# Altium footprint library SPDT_5X5.A1.PcbLib: 1 footprints
Each footprint in its own frame and in the unit in brackets; x right, y up, seen from the top. Pads: shape width x height; smd on the part's side, far side on the other; paste and mask are expansions set on the pad; w line width, h text height; cw(c..) or ccw(c..) is an arc to the next point about the centre after c.
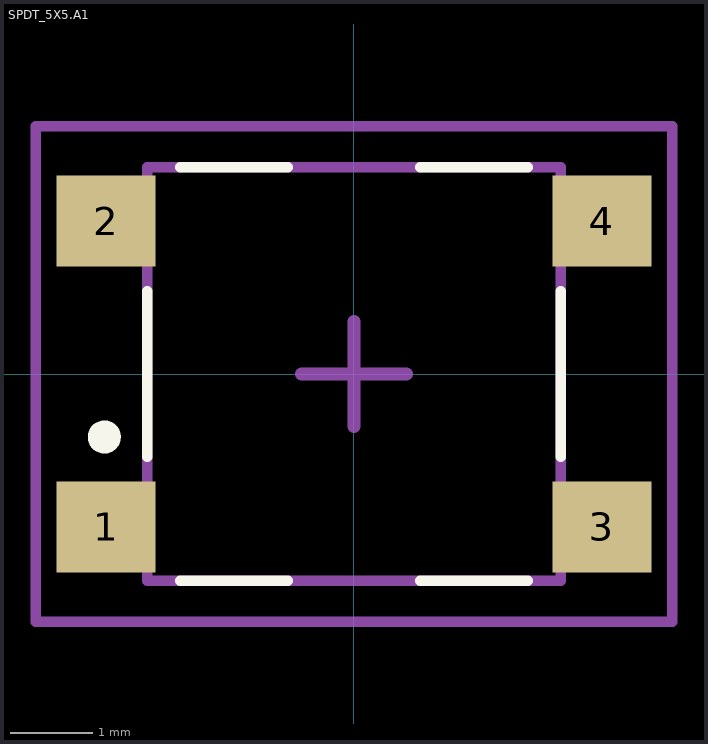
[diagram p0: the footprint, top view; thin cyan lines are the x and y axes]

## SPDT_5X5.A1 [mm]
pads (4):
  rect 1.2x1.1 smd: 1(-3,-1.85) 2(-3,1.85) 3(3,-1.85) 4(3,1.85)
Top Overlay:
  circle w0.2: c-3.021,-0.762 r0.1
  lines w0.127: -2.5,-1 -2.5,1 ; -2.1,-2.5 -0.8,-2.5 ; -2.1,2.5 -0.8,2.5 ; 0.8,-2.5 2.1,-2.5 ; 0.8,2.5 2.1,2.5 ; 2.5,-1 2.5,1
Mechanical 13:
  lines w0.127: -2.5,-2.5 2.5,-2.5 2.5,2.5 -2.5,2.5 -2.5,-2.5
Mechanical 15:
  lines w0.127: -3.85,-3 3.85,-3 3.85,3 -3.85,3 -3.85,-3
  lines w0.152: -0.635,0 0.635,0 ; 0,-0.635 0,0.635
3D body: height 1.49, standoff -0.01, extent -3.1,-2.5 3.1,2.5